# Altium schematic symbol library RADMBo Schematic Library.SchLib: 6 symbols
Pins are listed as number, name and electrical type; pins without a type are passive.

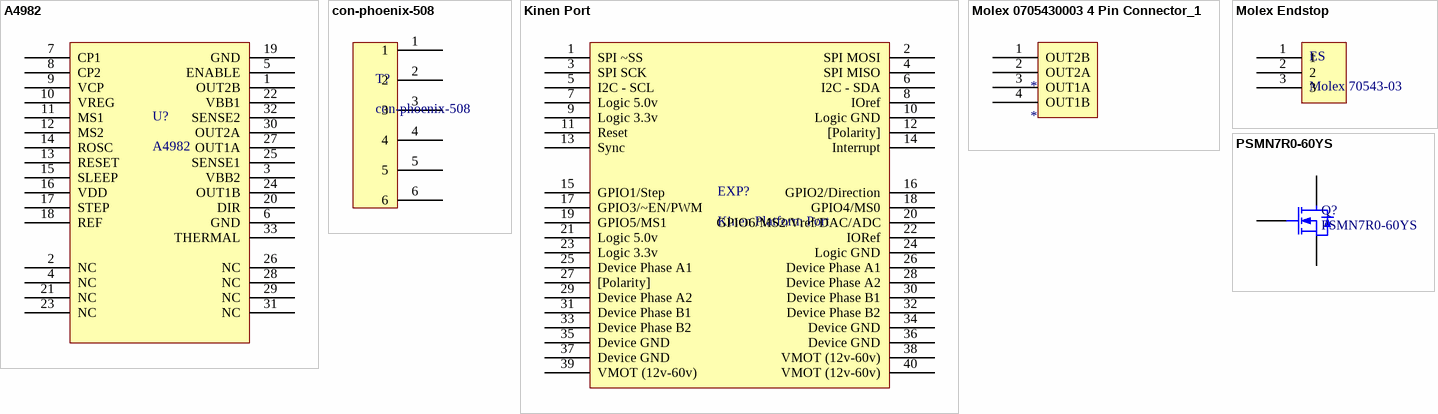
[diagram p0: symbols A4982 to PSMN7R0-60YS]

## A4982
designator U?
Alllegor A4982 Stepper Driver
footprint QFN50P508X508X100_HS-33N (QFN, 32-Leads, Body 5.08x5.08mm, Pitch 0.50mm, Thermal Pad 3.40x3.40mm, IPC Medium Density)
pins: 1 OUT2B, 2 NC, 3 VBB2, 4 NC, 5 ENABLE, 6 GND, 7 CP1, 8 CP2, 9 VCP, 10 VREG, 11 MS1, 12 MS2, 13 RESET, 14 ROSC, 15 SLEEP, 16 VDD, 17 STEP, 18 REF, 19 GND, 20 DIR, 21 NC, 22 VBB1, 23 NC, 24 OUT1B, 25 SENSE1, 26 NC, 27 OUT1A, 28 NC, 29 NC, 30 OUT2A, 31 NC, 32 SENSE2, 33 THERMAL

## con-phoenix-508
designator T?
footprint con-phoenix-508
pins: 1, 2, 3, 4, 5, 6

## Kinen Port
designator EXP?, comment Kinen Platform Port
footprint Kinen Port (Synthetos Kinen Expansion Port Socket)
pins: 1 SPI ~SS, 2 SPI MOSI, 3 SPI SCK, 4 SPI MISO, 5 I2C - SCL, 6 I2C - SDA, 7 Logic 5.0v, 8 IOref, 9 Logic 3.3v, 10 Logic GND, 11 Reset, 12 [Polarity], 13 Sync, 14 Interrupt, 15 GPIO1/Step, 16 GPIO2/Direction, 17 GPIO3/~EN/PWM, 18 GPIO4/MS0, 19 GPIO5/MS1, 20 GPIO6/MS2/Vref/DAC/ADC, 21 Logic 5.0v, 22 IORef, 23 Logic 3.3v, 24 Logic GND, 25 Device Phase A1, 26 Device Phase A1, 27 [Polarity], 28 Device Phase A2, 29 Device Phase A2, 30 Device Phase B1, 31 Device Phase B1, 32 Device Phase B2, 33 Device Phase B2, 34 Device GND, 35 Device GND, 36 Device GND, 37 Device GND, 38 VMOT (12v-60v), 39 VMOT (12v-60v), 40 VMOT (12v-60v)

## Molex 0705430003 4 Pin Connector_1
designator *
footprint Molex 0705430003 (4 pin connector)
pins: 1 OUT2B, 2 OUT2A, 3 OUT1A, 4 OUT1B

## Molex Endstop
designator ES, comment Molex 70543-03
footprint MOLEX Endstop
pins: 1, 2, 3

## PSMN7R0-60YS
designator Q?
N-Channel MOSFET; Published: 8-Jun-2000; LatestRevisionDate: 17-Jul-2002; LatestRevisionNote: Re-released for DXP Platform.; PackageVersion: 1995/1996; PackageReference: E3; Publisher: Altium Limited; PackageDescription: TO, Flat Index; 3 In-Line, Axial Leads; Body Dia. 4.6mm; Lead Dia. 0.5 mm (max)
simulation model NMOS (MOSFET-N)
footprint PSMN7R0-60YS (TO, 5-Pads, Body 5.15x5.86mm (max), IPC Medium Density)
pins: 1 S hidden to GND, 2 S hidden to GND, 3 S, 4 G, 5 D